# Altium integrated library TI Amplifiers and Linear Operational Amplifier Precision Amplifier Part Two.IntLib: 2300 symbols (part 5 of 81)
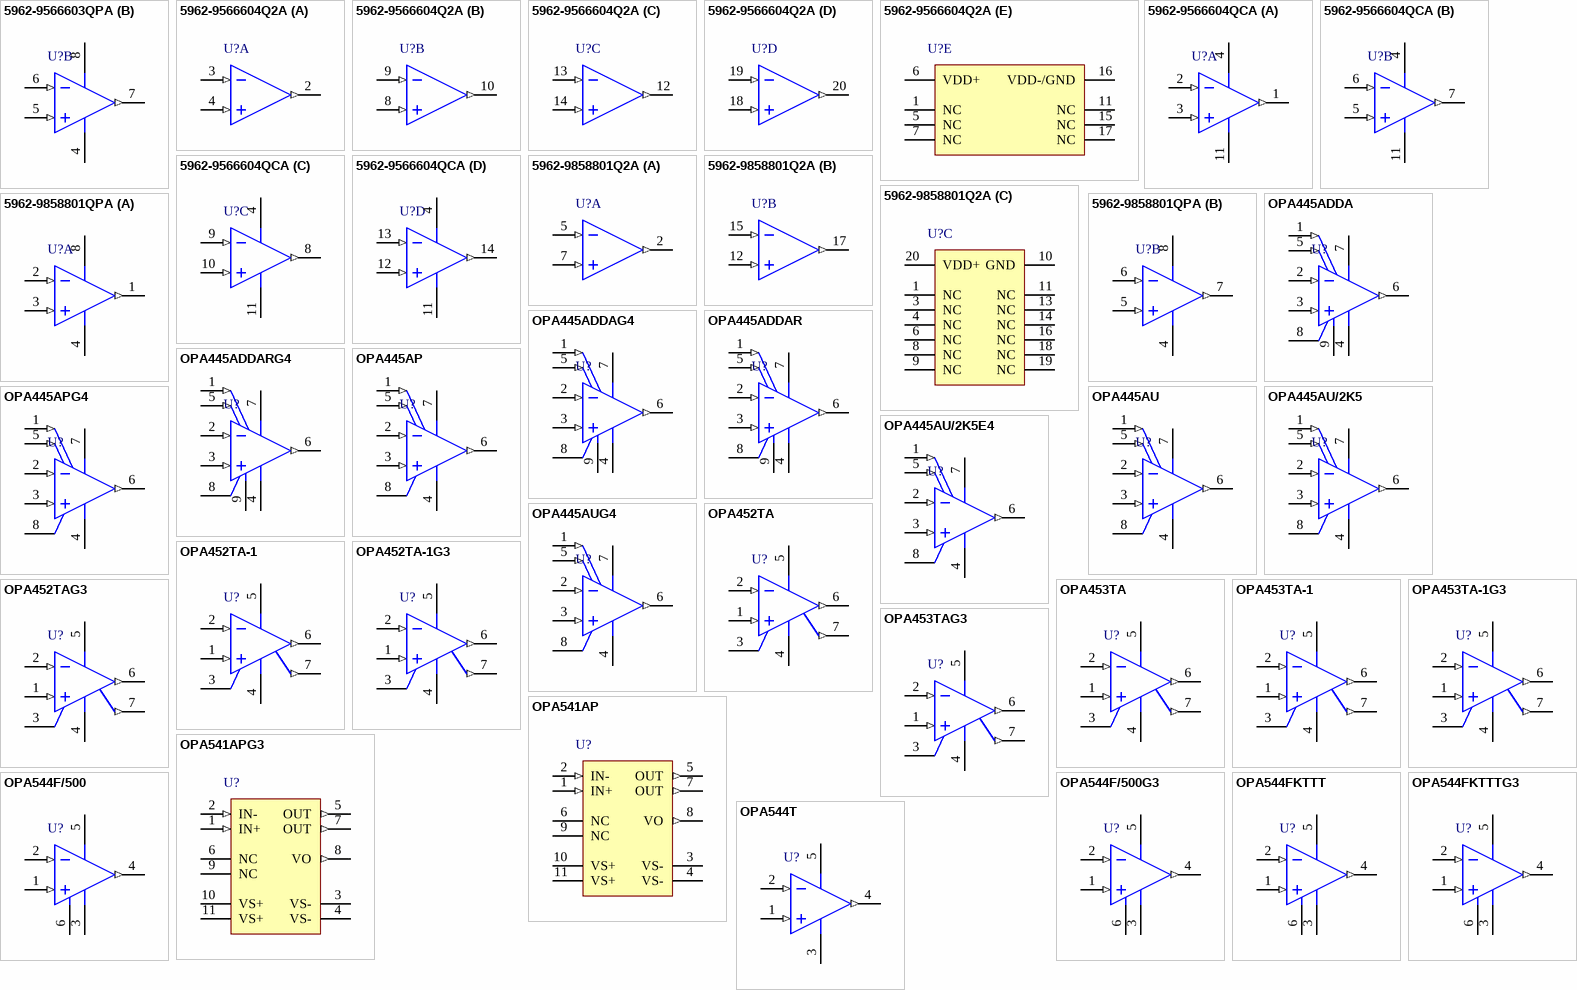
[diagram p140: symbols 5962-9566603QPA to OPA544T]

## OPA541AP
designator U?
High Power Monolithic Operational Amplifier, 20 to 70 V, -25 to 85 degC, 11-pin FM (KV11), Green (RoHS & no Sb/Br); Manufacturer: Texas Instruments; PartNumber: OPA541AP; CMRR(Min)(dB): 95; GBW(Typ)(MHz): 1.6; IIB(Max)(pA): 50; Iq per channel(Max)(mA): 25; Number of Channels: 1; Offset Drift(Typ)(uV/C): 20; Packing: TUBE; Rating: Catalog; Slew Rate(Typ)(V/us): 10; Sub Family: High Output Current Amplifier (>=50mA), High Supply Voltage Amplifier (>=30V), Precision Amplifier; Total Supply Voltage(Max)(+5V is 5, +/-5V is 10): 70; DatasheetVersion: SBOS153A; PackageVersion: 4202503/C, 06/2009; PackageReference: KV11; PackageDescription: 11-Pin Plastic Flange Mount, Body 20.015 x 4.495 mm, Pitch 1.7 mm; Supplier 1: Digi-Key; Supplier Part Number 1: OPA541AP-ND; Supplier 2: Farnell; Supplier Part Number 2: 1097513; Supplier 3: Newark; Supplier Part Number 3: 72K9048; Supplier 4: Mouser; Supplier Part Number 4: 595-OPA541AP; Eco-Plan: Green (RoHS & no Sb/Br); Total Supply Voltage(Min)(+5V is 5, +/-5V is 10): 20; Vio (25C)(Max)(mV): 10; Mounting Technology: Through Hole; Code_JEDEC: MO-48-AA; ComponentLink1Description: Manufacturer URL; ComponentLink1URL: http://www.ti.com/; ComponentLink2Description: Datasheet; ComponentLink2URL: http://www.ti.com/lit/ds/symlink/opa541.pdf; ComponentLink3Description: Package Specification; ComponentLink3URL: http://www.ti.com/litv/pdf/mpzf003b
footprint TI-KV11_V (FM, 11-Leads, Body 20.015x4.495mm, Pitch 1.7mm)
pins: 1 IN+ (in), 2 IN- (in), 3 VS- (power), 4 VS- (power), 5 OUT (out), 6 NC, 7 OUT (out), 8 VO (out), 9 NC, 10 VS+ (power), 11 VS+ (power)

## OPA541APG3
designator U?
High Power Monolithic Operational Amplifier, 20 to 70 V, -25 to 85 degC, 11-pin FM (KV11), Green (RoHS & no Sb/Br); Manufacturer: Texas Instruments; PartNumber: OPA541APG3; CMRR(Min)(dB): 95; GBW(Typ)(MHz): 1.6; IIB(Max)(pA): 50; Iq per channel(Max)(mA): 25; Number of Channels: 1; Offset Drift(Typ)(uV/C): 20; Packing: TUBE; Rating: Catalog; Slew Rate(Typ)(V/us): 10; Sub Family: High Output Current Amplifier (>=50mA), High Supply Voltage Amplifier (>=30V), Precision Amplifier; Total Supply Voltage(Max)(+5V is 5, +/-5V is 10): 70; DatasheetVersion: SBOS153A; PackageVersion: 4202503/C, 06/2009; PackageReference: KV11; PackageDescription: 11-Pin Plastic Flange Mount, Body 20.015 x 4.495 mm, Pitch 1.7 mm; Supplier 1: Digi-Key; Supplier Part Number 1: 296-36130-5-ND; Supplier 2: Newark; Supplier Part Number 2: 24K4690; Supplier 3: Mouser; Supplier Part Number 3: 595-OPA541APG3; Eco-Plan: Green (RoHS & no Sb/Br); Total Supply Voltage(Min)(+5V is 5, +/-5V is 10): 20; Vio (25C)(Max)(mV): 10; Mounting Technology: Through Hole; Code_JEDEC: MO-48-AA; ComponentLink1Description: Manufacturer URL; ComponentLink1URL: http://www.ti.com/; ComponentLink2Description: Datasheet; ComponentLink2URL: http://www.ti.com/lit/ds/symlink/opa541.pdf; ComponentLink3Description: Package Specification; ComponentLink3URL: http://www.ti.com/litv/pdf/mpzf003b
footprint TI-KV11_V (FM, 11-Leads, Body 20.015x4.495mm, Pitch 1.7mm)
pins: 1 IN+ (in), 2 IN- (in), 3 VS- (power), 4 VS- (power), 5 OUT (out), 6 NC, 7 OUT (out), 8 VO (out), 9 NC, 10 VS+ (power), 11 VS+ (power)

## OPA544F/500
designator U?
High-Voltage, High-Current Operational Amplifier, 20 to 70 V, -40 to 85 degC, 5-pin DPAK (KTT5), Green (RoHS & no Sb/Br); Manufacturer: Texas Instruments; PartNumber: OPA544F/500; CMRR(Min)(dB): 90; GBW(Typ)(MHz): 1.4; IIB(Max)(pA): 100; Iq per channel(Max)(mA): 15; Number of Channels: 1; Offset Drift(Typ)(uV/C): 10; Packing: LARGE T&R; Rating: Catalog; Slew Rate(Typ)(V/us): 8; Sub Family: High Output Current Amplifier (>=50mA), High Supply Voltage Amplifier (>=30V), Precision Amplifier; Total Supply Voltage(Max)(+5V is 5, +/-5V is 10): 70; Total Supply Voltage(Min)(+5V is 5, +/-5V is 10): 20; Vio (25C)(Max)(mV): 5; DatasheetVersion: SBOS038; PackageVersion: 4200577-3/F, 07/2011; PackageReference: KTT5; PackageDescription: 3-Pin Plastic Flange Mount, Body 10.16 x 10.34 mm, Pitch 1.7 mm; Supplier 1: Digi-Key; Supplier Part Number 1: OPA544F/500-ND; Supplier 2: Farnell; Supplier Part Number 2: 2102679; Supplier 3: Newark; Supplier Part Number 3: 94T5896; Supplier 4: Newark; Supplier Part Number 4: 75C5058; Supplier 5: Mouser; Supplier Part Number 5: 595-OPA544F/500; Eco-Plan: Green (RoHS & no Sb/Br); Mounting Technology: Surface Mount; Code_JEDEC: TO-263; ComponentLink1Description: Manufacturer URL; ComponentLink1URL: http://www.ti.com/; ComponentLink2Description: Datasheet; ComponentLink2URL: http://www.ti.com/lit/ds/symlink/opa544.pdf; ComponentLink3Description: Package Specification; ComponentLink3URL: http://www.ti.com/litv/pdf/mpsf007e
footprint TI-KTT5_N (DPAK, 5-Leads, Body 10.16x8.925mm, Pitch 1.7mm, IPC Medium Density)
footprint TI-KTT5_L (DPAK, 5-Leads, Body 10.16x8.925mm, Pitch 1.7mm, IPC High Density)
footprint TI-KTT5_M (DPAK, 5-Leads, Body 10.16x8.925mm, Pitch 1.7mm, IPC Low Density)
pins: 1 VIN+ (in), 2 VIN- (in), 3 V- (power), 4 VO (out), 5 V+ (power), 6 EP (power)

## OPA544F/500G3
designator U?
High-Voltage, High-Current Operational Amplifier, 20 to 70 V, -40 to 85 degC, 5-pin DPAK (KTT5), Green (RoHS & no Sb/Br); Manufacturer: Texas Instruments; PartNumber: OPA544F/500G3; CMRR(Min)(dB): 90; GBW(Typ)(MHz): 1.4; IIB(Max)(pA): 100; Iq per channel(Max)(mA): 15; Number of Channels: 1; Offset Drift(Typ)(uV/C): 10; Packing: LARGE T&R; Rating: Catalog; Slew Rate(Typ)(V/us): 8; Sub Family: High Output Current Amplifier (>=50mA), High Supply Voltage Amplifier (>=30V), Precision Amplifier; Total Supply Voltage(Max)(+5V is 5, +/-5V is 10): 70; Total Supply Voltage(Min)(+5V is 5, +/-5V is 10): 20; Vio (25C)(Max)(mV): 5; DatasheetVersion: SBOS038; PackageVersion: 4200577-3/F, 07/2011; PackageReference: KTT5; PackageDescription: 3-Pin Plastic Flange Mount, Body 10.16 x 10.34 mm, Pitch 1.7 mm; Supplier 1: Digi-Key; Supplier Part Number 1: OPA544F/500G3-ND; Supplier 2: Mouser; Supplier Part Number 2: 595-OPA544F/500G3; Eco-Plan: Green (RoHS & no Sb/Br); Mounting Technology: Surface Mount; Code_JEDEC: TO-263; ComponentLink1Description: Manufacturer URL; ComponentLink1URL: http://www.ti.com/; ComponentLink2Description: Datasheet; ComponentLink2URL: http://www.ti.com/lit/ds/symlink/opa544.pdf; ComponentLink3Description: Package Specification; ComponentLink3URL: http://www.ti.com/litv/pdf/mpsf007e
footprint TI-KTT5_N (DPAK, 5-Leads, Body 10.16x8.925mm, Pitch 1.7mm, IPC Medium Density)
footprint TI-KTT5_L (DPAK, 5-Leads, Body 10.16x8.925mm, Pitch 1.7mm, IPC High Density)
footprint TI-KTT5_M (DPAK, 5-Leads, Body 10.16x8.925mm, Pitch 1.7mm, IPC Low Density)
pins: 1 VIN+ (in), 2 VIN- (in), 3 V- (power), 4 VO (out), 5 V+ (power), 6 EP (power)

## OPA544FKTTT
designator U?
High-Voltage, High-Current Operational Amplifier, 20 to 70 V, -40 to 85 degC, 5-pin DPAK (KTT5); Manufacturer: Texas Instruments; PartNumber: OPA544FKTTT; CMRR(Min)(dB): 90; GBW(Typ)(MHz): 1.4; IIB(Max)(pA): 100; Iq per channel(Max)(mA): 15; Number of Channels: 1; Offset Drift(Typ)(uV/C): 10; Packing: SMALL T&R; Rating: Catalog; Slew Rate(Typ)(V/us): 8; Sub Family: High Output Current Amplifier (>=50mA), High Supply Voltage Amplifier (>=30V), Precision Amplifier; Total Supply Voltage(Max)(+5V is 5, +/-5V is 10): 70; Total Supply Voltage(Min)(+5V is 5, +/-5V is 10): 20; Vio (25C)(Max)(mV): 5; DatasheetVersion: SBOS038; PackageVersion: 4200577-3/F, 07/2011; PackageReference: KTT5; PackageDescription: 3-Pin Plastic Flange Mount, Body 10.16 x 10.34 mm, Pitch 1.7 mm; Supplier 1: Digi-Key; Supplier Part Number 1: 296-15905-2-ND; Supplier 2: Digi-Key; Supplier Part Number 2: 296-15905-1-ND; Supplier 3: Digi-Key; Supplier Part Number 3: 296-15905-6-ND; Supplier 4: Farnell; Supplier Part Number 4: 1296116; Supplier 5: Newark; Supplier Part Number 5: 87H2075; Supplier 6: Mouser; Supplier Part Number 6: 595-OPA544FKTTT; Mounting Technology: Surface Mount; Code_JEDEC: TO-263; ComponentLink1Description: Manufacturer URL; ComponentLink1URL: http://www.ti.com/; ComponentLink2Description: Datasheet; ComponentLink2URL: http://www.ti.com/lit/ds/symlink/opa544.pdf; ComponentLink3Description: Package Specification; ComponentLink3URL: http://www.ti.com/litv/pdf/mpsf007e
footprint TI-KTT5_N (DPAK, 5-Leads, Body 10.16x8.925mm, Pitch 1.7mm, IPC Medium Density)
footprint TI-KTT5_L (DPAK, 5-Leads, Body 10.16x8.925mm, Pitch 1.7mm, IPC High Density)
footprint TI-KTT5_M (DPAK, 5-Leads, Body 10.16x8.925mm, Pitch 1.7mm, IPC Low Density)
pins: 1 VIN+ (in), 2 VIN- (in), 3 V- (power), 4 VO (out), 5 V+ (power), 6 EP (power)

## OPA544FKTTTG3
designator U?
High-Voltage, High-Current Operational Amplifier, 20 to 70 V, -40 to 85 degC, 5-pin DPAK (KTT5); Manufacturer: Texas Instruments; PartNumber: OPA544FKTTTG3; CMRR(Min)(dB): 90; GBW(Typ)(MHz): 1.4; IIB(Max)(pA): 100; Iq per channel(Max)(mA): 15; Number of Channels: 1; Offset Drift(Typ)(uV/C): 10; Packing: SMALL T&R; Rating: Catalog; Slew Rate(Typ)(V/us): 8; Sub Family: High Output Current Amplifier (>=50mA), High Supply Voltage Amplifier (>=30V), Precision Amplifier; Total Supply Voltage(Max)(+5V is 5, +/-5V is 10): 70; Total Supply Voltage(Min)(+5V is 5, +/-5V is 10): 20; Vio (25C)(Max)(mV): 5; DatasheetVersion: SBOS038; PackageVersion: 4200577-3/F, 07/2011; PackageReference: KTT5; PackageDescription: 3-Pin Plastic Flange Mount, Body 10.16 x 10.34 mm, Pitch 1.7 mm; Supplier 1: Digi-Key; Supplier Part Number 1: OPA544FKTTTG3-ND; Supplier 2: Mouser; Supplier Part Number 2: 595-OPA544FKTTTG3; Mounting Technology: Surface Mount; Code_JEDEC: TO-263; ComponentLink1Description: Manufacturer URL; ComponentLink1URL: http://www.ti.com/; ComponentLink2Description: Datasheet; ComponentLink2URL: http://www.ti.com/lit/ds/symlink/opa544.pdf; ComponentLink3Description: Package Specification; ComponentLink3URL: http://www.ti.com/litv/pdf/mpsf007e
footprint TI-KTT5_N (DPAK, 5-Leads, Body 10.16x8.925mm, Pitch 1.7mm, IPC Medium Density)
footprint TI-KTT5_L (DPAK, 5-Leads, Body 10.16x8.925mm, Pitch 1.7mm, IPC High Density)
footprint TI-KTT5_M (DPAK, 5-Leads, Body 10.16x8.925mm, Pitch 1.7mm, IPC Low Density)
pins: 1 VIN+ (in), 2 VIN- (in), 3 V- (power), 4 VO (out), 5 V+ (power), 6 EP (power)

## OPA544T
designator U?
High-Voltage, High-Current Operational Amplifier, 20 to 70 V, -40 to 85 degC, 5-pin FM (KC5); Manufacturer: Texas Instruments; PartNumber: OPA544T; CMRR(Min)(dB): 90; GBW(Typ)(MHz): 1.4; IIB(Max)(pA): 100; Iq per channel(Max)(mA): 15; Number of Channels: 1; Offset Drift(Typ)(uV/C): 10; Packing: TUBE; Rating: Catalog; Slew Rate(Typ)(V/us): 8; Sub Family: High Output Current Amplifier (>=50mA), High Supply Voltage Amplifier (>=30V), Precision Amplifier; Total Supply Voltage(Max)(+5V is 5, +/-5V is 10): 70; Total Supply Voltage(Min)(+5V is 5, +/-5V is 10): 20; Vio (25C)(Max)(mV): 5; DatasheetVersion: SBOS038; PackageVersion: 4040208/F, 07/2006; PackageReference: KC5; PackageDescription: 5-Pin Plastic Flange Mount, Body 10.16 x 15.37 mm, Pitch 1.7 mm; Supplier 1: Digi-Key; Supplier Part Number 1: OPA544T-ND; Supplier 2: Newark; Supplier Part Number 2: 36K2005; Supplier 3: Mouser; Supplier Part Number 3: 595-OPA544T; Mounting Technology: Through Hole; ComponentLink1Description: Manufacturer URL; ComponentLink1URL: http://www.ti.com/; ComponentLink2Description: Datasheet; ComponentLink2URL: http://www.ti.com/lit/ds/symlink/opa544.pdf; ComponentLink3Description: Package Specification; ComponentLink3URL: http://www.ti.com/litv/pdf/msot008c
footprint TI-KC5 (Flange Mount, 5-Leads, Body 15.37x10.16mm, Pitch 1.7mm)
pins: 1 VIN+ (in), 2 VIN- (in), 3 V- (power), 4 VO (out), 5 V+ (power)

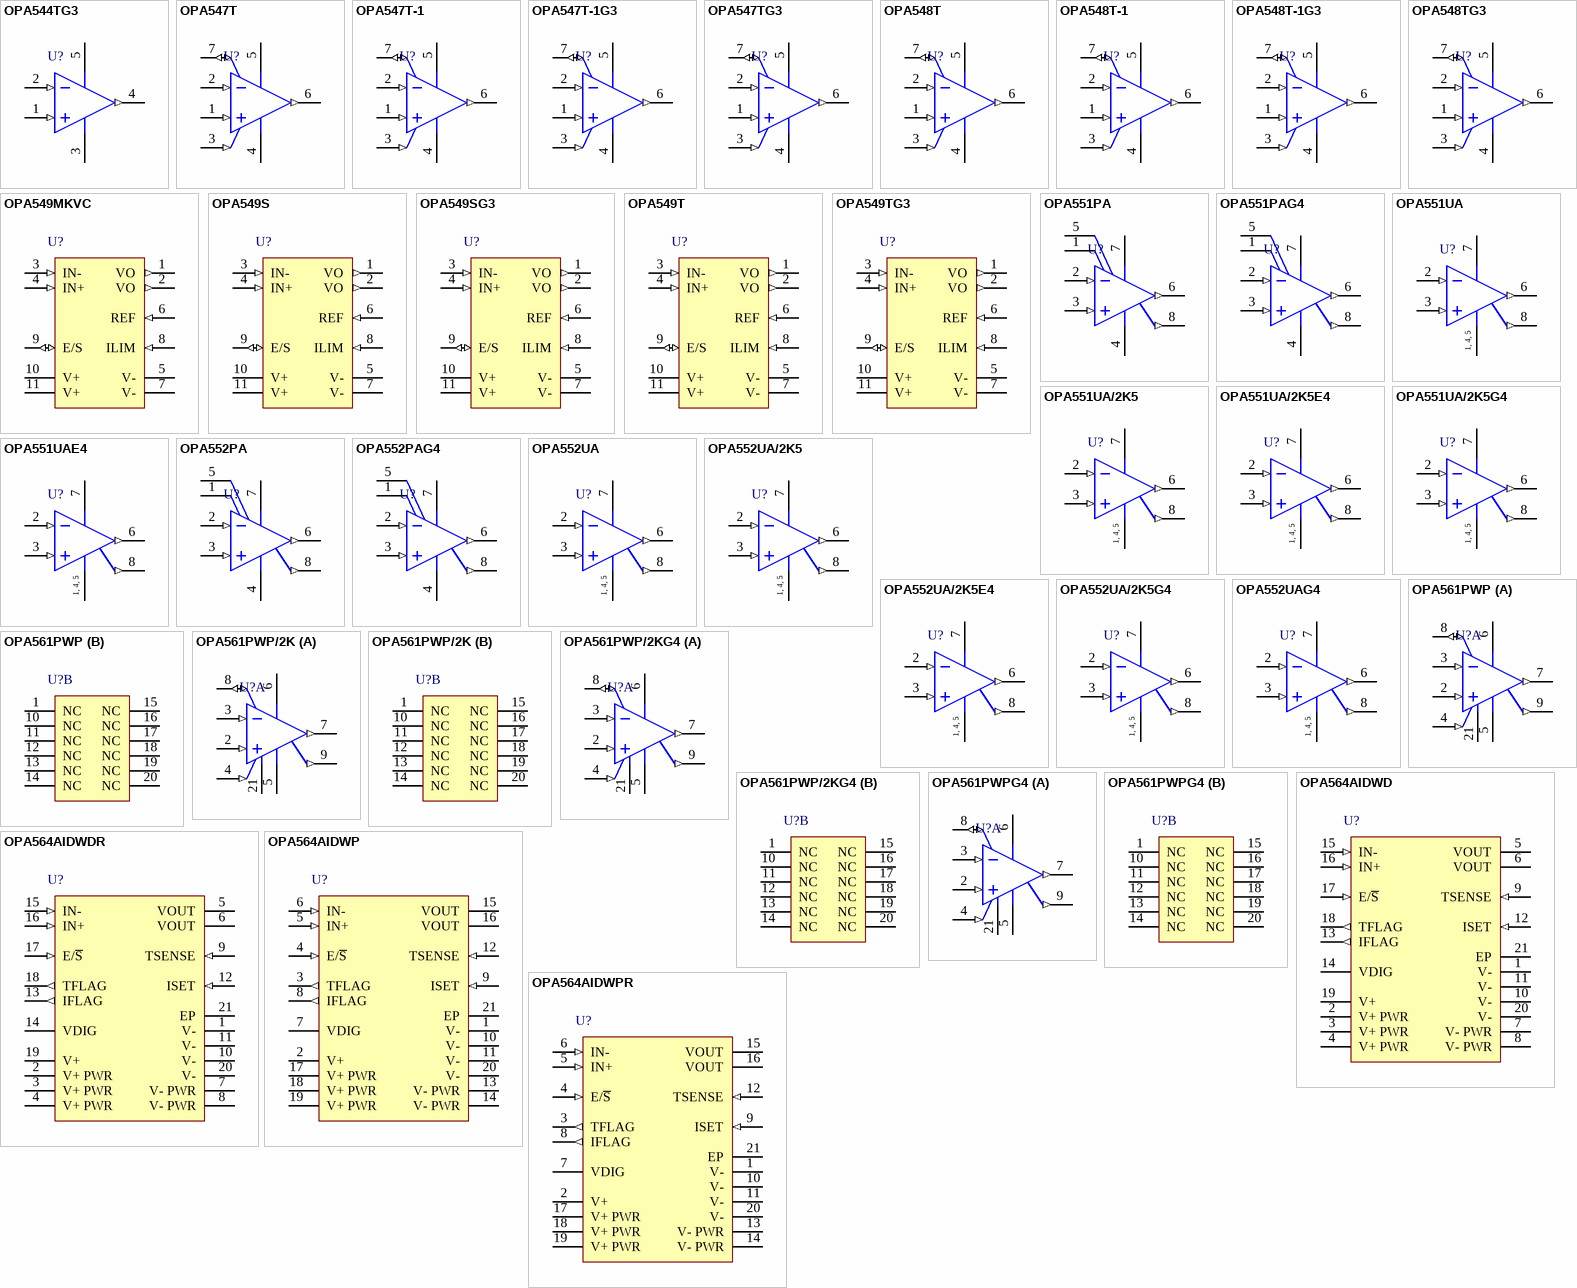
[diagram p8: symbols OPA544TG3 to OPA564AIDWPR]

## OPA544TG3
designator U?
High-Voltage, High-Current Operational Amplifier, 20 to 70 V, -40 to 85 degC, 5-pin FM (KC5); Manufacturer: Texas Instruments; PartNumber: OPA544TG3; CMRR(Min)(dB): 90; GBW(Typ)(MHz): 1.4; IIB(Max)(pA): 100; Iq per channel(Max)(mA): 15; Number of Channels: 1; Offset Drift(Typ)(uV/C): 10; Packing: TUBE; Rating: Catalog; Slew Rate(Typ)(V/us): 8; Sub Family: High Output Current Amplifier (>=50mA), High Supply Voltage Amplifier (>=30V), Precision Amplifier; Total Supply Voltage(Max)(+5V is 5, +/-5V is 10): 70; Total Supply Voltage(Min)(+5V is 5, +/-5V is 10): 20; Vio (25C)(Max)(mV): 5; DatasheetVersion: SBOS038; PackageVersion: 4040208/F, 07/2006; PackageReference: KC5; PackageDescription: 5-Pin Plastic Flange Mount, Body 10.16 x 15.37 mm, Pitch 1.7 mm; Supplier 1: Digi-Key; Supplier Part Number 1: 296-36131-5-ND; Supplier 2: Newark; Supplier Part Number 2: 28M6694; Supplier 3: Mouser; Supplier Part Number 3: 595-OPA544TG3; Mounting Technology: Through Hole; ComponentLink1Description: Manufacturer URL; ComponentLink1URL: http://www.ti.com/; ComponentLink2Description: Datasheet; ComponentLink2URL: http://www.ti.com/lit/ds/symlink/opa544.pdf; ComponentLink3Description: Package Specification; ComponentLink3URL: http://www.ti.com/litv/pdf/msot008c
footprint TI-KC5 (Flange Mount, 5-Leads, Body 15.37x10.16mm, Pitch 1.7mm)
pins: 1 VIN+ (in), 2 VIN- (in), 3 V- (power), 4 VO (out), 5 V+ (power)

## OPA547T
designator U?
High-Voltage, High-Current Operational Amplifier, Excellent Output Swing, 8 to 60 V, -40 to 85 degC, 7-pin FM (KVT7), Green (RoHS & no Sb/Br); Manufacturer: Texas Instruments; PartNumber: OPA547T; CMRR(Min)(dB): 80; GBW(Typ)(MHz): 1; IIB(Max)(pA): 500000; Iq per channel(Max)(mA): 15; Offset Drift(Typ)(uV/C): 25; Packing: TUBE; Rating: Catalog; Slew Rate(Typ)(V/us): 6; Sub Family: High Output Current Amplifier (>=50mA), High Supply Voltage Amplifier (>=30V), Precision Amplifier; Total Supply Voltage(Max)(+5V is 5, +/-5V is 10): 60; Total Supply Voltage(Min)(+5V is 5, +/-5V is 10): 8; Vio (25C)(Max)(mV): 5; DatasheetVersion: SBOS056F; PackageVersion: 4204912/A, 01/2003; PackageReference: KVT7; PackageDescription: 7-Pin Plastic Flange Mount, Body 10.16 x 4.495 mm, Pitch 1.27 mm; Supplier 1: Digi-Key; Supplier Part Number 1: OPA547T-ND; Supplier 2: Farnell; Supplier Part Number 2: 1564871; Supplier 3: Farnell; Supplier Part Number 3: 1097395; Supplier 4: Newark; Supplier Part Number 4: 62K3461; Supplier 5: Mouser; Supplier Part Number 5: 595-OPA547T; Eco-Plan: Green (RoHS & no Sb/Br); Number of Channels: 1; Mounting Technology: Through Hole; ComponentLink1Description: Manufacturer URL; ComponentLink1URL: http://www.ti.com/; ComponentLink2Description: Datasheet; ComponentLink2URL: http://www.ti.com/lit/ds/symlink/opa547.pdf; ComponentLink3Description: Package Specification; ComponentLink3URL: http://www.ti.com/litv/pdf/mpzf004
footprint TI-KVT7 (FM, 7-Leads, Body 10.16x4.495mm, Pitch 1.27mm)
pins: 1 VIN+ (in), 2 VIN- (in), 3 ILIM (in), 4 V- (power), 5 V+ (power), 6 VO (out), 7 E/S (io)

## OPA547T-1
designator U?
High-Voltage, High-Current Operational Amplifier, Excellent Output Swing, 8 to 60 V, -40 to 85 degC, 7-pin FM (KC7), Green (RoHS & no Sb/Br); Manufacturer: Texas Instruments; PartNumber: OPA547T-1; CMRR(Min)(dB): 80; GBW(Typ)(MHz): 1; IIB(Max)(pA): 500000; Iq per channel(Max)(mA): 15; Offset Drift(Typ)(uV/C): 25; Packing: TUBE; Rating: Catalog; Slew Rate(Typ)(V/us): 6; Sub Family: High Output Current Amplifier (>=50mA), High Supply Voltage Amplifier (>=30V), Precision Amplifier; Total Supply Voltage(Max)(+5V is 5, +/-5V is 10): 60; Total Supply Voltage(Min)(+5V is 5, +/-5V is 10): 8; Vio (25C)(Max)(mV): 5; DatasheetVersion: SBOS056F; PackageVersion: 4040251/B, 01/1995; PackageReference: KC7; PackageDescription: 7-Pin Plastic Flange Mount, Body 10.16 x 14.55 mm, Pitch 1.27 mm; Supplier 1: Digi-Key; Supplier Part Number 1: 296-25296-5-ND; Supplier 2: Newark; Supplier Part Number 2: 75C5062; Supplier 3: Mouser; Supplier Part Number 3: 595-OPA547T-1; Eco-Plan: Green (RoHS & no Sb/Br); Number of Channels: 1; Mounting Technology: Through Hole; ComponentLink1Description: Manufacturer URL; ComponentLink1URL: http://www.ti.com/; ComponentLink2Description: Datasheet; ComponentLink2URL: http://www.ti.com/lit/ds/symlink/opa547.pdf; ComponentLink3Description: Package Specification; ComponentLink3URL: http://www.ti.com/litv/pdf/msot010
footprint TI-KC7 (Flange Mount, 7-Leads, Body 14.55x10.16mm, Pitch 1.27mm)
pins: 1 VIN+ (in), 2 VIN- (in), 3 ILIM (in), 4 V- (power), 5 V+ (power), 6 VO (out), 7 E/S (io)

## OPA547T-1G3
designator U?
High-Voltage, High-Current Operational Amplifier, Excellent Output Swing, 8 to 60 V, -40 to 85 degC, 7-pin FM (KC7), Green (RoHS & no Sb/Br); Manufacturer: Texas Instruments; PartNumber: OPA547T-1G3; CMRR(Min)(dB): 80; GBW(Typ)(MHz): 1; IIB(Max)(pA): 500000; Iq per channel(Max)(mA): 15; Offset Drift(Typ)(uV/C): 25; Packing: TUBE; Rating: Catalog; Slew Rate(Typ)(V/us): 6; Sub Family: High Output Current Amplifier (>=50mA), High Supply Voltage Amplifier (>=30V), Precision Amplifier; Total Supply Voltage(Max)(+5V is 5, +/-5V is 10): 60; Total Supply Voltage(Min)(+5V is 5, +/-5V is 10): 8; Vio (25C)(Max)(mV): 5; DatasheetVersion: SBOS056F; PackageVersion: 4040251/B, 01/1995; PackageReference: KC7; PackageDescription: 7-Pin Plastic Flange Mount, Body 10.16 x 14.55 mm, Pitch 1.27 mm; Supplier 1: Digi-Key; Supplier Part Number 1: OPA547T-1G3-ND; Supplier 2: Newark; Supplier Part Number 2: 73K9266; Supplier 3: Mouser; Supplier Part Number 3: 595-OPA547T-1G3; Eco-Plan: Green (RoHS & no Sb/Br); Number of Channels: 1; Mounting Technology: Through Hole; ComponentLink1Description: Manufacturer URL; ComponentLink1URL: http://www.ti.com/; ComponentLink2Description: Datasheet; ComponentLink2URL: http://www.ti.com/lit/ds/symlink/opa547.pdf; ComponentLink3Description: Package Specification; ComponentLink3URL: http://www.ti.com/litv/pdf/msot010
footprint TI-KC7 (Flange Mount, 7-Leads, Body 14.55x10.16mm, Pitch 1.27mm)
pins: 1 VIN+ (in), 2 VIN- (in), 3 ILIM (in), 4 V- (power), 5 V+ (power), 6 VO (out), 7 E/S (io)

## OPA547TG3
designator U?
High-Voltage, High-Current Operational Amplifier, Excellent Output Swing, 8 to 60 V, -40 to 85 degC, 7-pin FM (KVT7), Green (RoHS & no Sb/Br); Manufacturer: Texas Instruments; PartNumber: OPA547TG3; CMRR(Min)(dB): 80; GBW(Typ)(MHz): 1; IIB(Max)(pA): 500000; Iq per channel(Max)(mA): 15; Offset Drift(Typ)(uV/C): 25; Packing: TUBE; Rating: Catalog; Slew Rate(Typ)(V/us): 6; Sub Family: High Output Current Amplifier (>=50mA), High Supply Voltage Amplifier (>=30V), Precision Amplifier; Total Supply Voltage(Max)(+5V is 5, +/-5V is 10): 60; Total Supply Voltage(Min)(+5V is 5, +/-5V is 10): 8; Vio (25C)(Max)(mV): 5; DatasheetVersion: SBOS056F; PackageVersion: 4204912/A, 01/2003; PackageReference: KVT7; PackageDescription: 7-Pin Plastic Flange Mount, Body 10.16 x 4.495 mm, Pitch 1.27 mm; Supplier 1: Digi-Key; Supplier Part Number 1: OPA547TG3-ND; Supplier 2: Newark; Supplier Part Number 2: 61K1370; Supplier 3: Mouser; Supplier Part Number 3: 595-OPA547TG3; Eco-Plan: Green (RoHS & no Sb/Br); Number of Channels: 1; Mounting Technology: Through Hole; ComponentLink1Description: Manufacturer URL; ComponentLink1URL: http://www.ti.com/; ComponentLink2Description: Datasheet; ComponentLink2URL: http://www.ti.com/lit/ds/symlink/opa547.pdf; ComponentLink3Description: Package Specification; ComponentLink3URL: http://www.ti.com/litv/pdf/mpzf004
footprint TI-KVT7 (FM, 7-Leads, Body 10.16x4.495mm, Pitch 1.27mm)
pins: 1 VIN+ (in), 2 VIN- (in), 3 ILIM (in), 4 V- (power), 5 V+ (power), 6 VO (out), 7 E/S (io)

## OPA548T
designator U?
High-Voltage, High-Current Operational Amplifier, Excellent Output Swing, 8 to 60 V, -40 to 85 degC, 7-pin FM (KVT7), Green (RoHS & no Sb/Br); Manufacturer: Texas Instruments; PartNumber: OPA548T; CMRR(Min)(dB): 80; GBW(Typ)(MHz): 1; IIB(Max)(pA): 500000; Iq per channel(Max)(mA): 20; Offset Drift(Typ)(uV/C): 30; Packing: TUBE; Rating: Catalog; Slew Rate(Typ)(V/us): 10; Sub Family: High Output Current Amplifier (>=50mA), High Supply Voltage Amplifier (>=30V), Precision Amplifier; Total Supply Voltage(Max)(+5V is 5, +/-5V is 10): 60; Total Supply Voltage(Min)(+5V is 5, +/-5V is 10): 8; DatasheetVersion: SBOS070B; PackageVersion: 4204912/A, 01/2003; PackageReference: KVT7; PackageDescription: 7-Pin Plastic Flange Mount, Body 10.16 x 4.495 mm, Pitch 1.27 mm; Supplier 1: Digi-Key; Supplier Part Number 1: 296-23089-5-ND; Supplier 2: Newark; Supplier Part Number 2: 69K2680; Supplier 3: Mouser; Supplier Part Number 3: 595-OPA548T; Eco-Plan: Green (RoHS & no Sb/Br); Number of Channels: 1; Vio (25C)(Max)(mV): 10; Mounting Technology: Through Hole; ComponentLink1Description: Manufacturer URL; ComponentLink1URL: http://www.ti.com/; ComponentLink2Description: Datasheet; ComponentLink2URL: http://www.ti.com/lit/ds/symlink/opa548.pdf; ComponentLink3Description: Package Specification; ComponentLink3URL: http://www.ti.com/litv/pdf/mpzf004
footprint TI-KVT7 (FM, 7-Leads, Body 10.16x4.495mm, Pitch 1.27mm)
pins: 1 VIN+ (in), 2 VIN- (in), 3 ILIM (in), 4 V- (power), 5 V+ (power), 6 VO (out), 7 E/S (io)

## OPA548T-1
designator U?
High-Voltage, High-Current Operational Amplifier, Excellent Output Swing, 8 to 60 V, -40 to 85 degC, 7-pin FM (KC7), Green (RoHS & no Sb/Br); Manufacturer: Texas Instruments; PartNumber: OPA548T-1; CMRR(Min)(dB): 80; GBW(Typ)(MHz): 1; IIB(Max)(pA): 500000; Iq per channel(Max)(mA): 20; Offset Drift(Typ)(uV/C): 30; Packing: TUBE; Rating: Catalog; Slew Rate(Typ)(V/us): 10; Sub Family: High Output Current Amplifier (>=50mA), High Supply Voltage Amplifier (>=30V), Precision Amplifier; Total Supply Voltage(Max)(+5V is 5, +/-5V is 10): 60; Total Supply Voltage(Min)(+5V is 5, +/-5V is 10): 8; DatasheetVersion: SBOS070B; PackageVersion: 4040251/B, 01/1995; PackageReference: KC7; PackageDescription: 7-Pin Plastic Flange Mount, Body 10.16 x 14.55 mm, Pitch 1.27 mm; Supplier 1: Digi-Key; Supplier Part Number 1: 296-26291-5-ND; Supplier 2: Farnell; Supplier Part Number 2: 1703223; Supplier 3: Newark; Supplier Part Number 3: 35K4775; Supplier 4: Mouser; Supplier Part Number 4: 595-OPA548T-1; Eco-Plan: Green (RoHS & no Sb/Br); Number of Channels: 1; Vio (25C)(Max)(mV): 10; Mounting Technology: Through Hole; ComponentLink1Description: Manufacturer URL; ComponentLink1URL: http://www.ti.com/; ComponentLink2Description: Datasheet; ComponentLink2URL: http://www.ti.com/lit/ds/symlink/opa548.pdf; ComponentLink3Description: Package Specification; ComponentLink3URL: http://www.ti.com/litv/pdf/msot010
footprint TI-KC7 (Flange Mount, 7-Leads, Body 14.55x10.16mm, Pitch 1.27mm)
pins: 1 VIN+ (in), 2 VIN- (in), 3 ILIM (in), 4 V- (power), 5 V+ (power), 6 VO (out), 7 E/S (io)

## OPA548T-1G3
designator U?
High-Voltage, High-Current Operational Amplifier, Excellent Output Swing, 8 to 60 V, -40 to 85 degC, 7-pin FM (KC7), Green (RoHS & no Sb/Br); Manufacturer: Texas Instruments; PartNumber: OPA548T-1G3; CMRR(Min)(dB): 80; GBW(Typ)(MHz): 1; IIB(Max)(pA): 500000; Iq per channel(Max)(mA): 20; Offset Drift(Typ)(uV/C): 30; Packing: TUBE; Rating: Catalog; Slew Rate(Typ)(V/us): 10; Sub Family: High Output Current Amplifier (>=50mA), High Supply Voltage Amplifier (>=30V), Precision Amplifier; Total Supply Voltage(Max)(+5V is 5, +/-5V is 10): 60; Total Supply Voltage(Min)(+5V is 5, +/-5V is 10): 8; DatasheetVersion: SBOS070B; PackageVersion: 4040251/B, 01/1995; PackageReference: KC7; PackageDescription: 7-Pin Plastic Flange Mount, Body 10.16 x 14.55 mm, Pitch 1.27 mm; Supplier 1: Digi-Key; Supplier Part Number 1: 296-36132-5-ND; Supplier 2: Newark; Supplier Part Number 2: 73K9267; Supplier 3: Mouser; Supplier Part Number 3: 595-OPA548T-1G3; Eco-Plan: Green (RoHS & no Sb/Br); Number of Channels: 1; Vio (25C)(Max)(mV): 10; Mounting Technology: Through Hole; ComponentLink1Description: Manufacturer URL; ComponentLink1URL: http://www.ti.com/; ComponentLink2Description: Datasheet; ComponentLink2URL: http://www.ti.com/lit/ds/symlink/opa548.pdf; ComponentLink3Description: Package Specification; ComponentLink3URL: http://www.ti.com/litv/pdf/msot010
footprint TI-KC7 (Flange Mount, 7-Leads, Body 14.55x10.16mm, Pitch 1.27mm)
pins: 1 VIN+ (in), 2 VIN- (in), 3 ILIM (in), 4 V- (power), 5 V+ (power), 6 VO (out), 7 E/S (io)

## OPA548TG3
designator U?
High-Voltage, High-Current Operational Amplifier, Excellent Output Swing, 8 to 60 V, -40 to 85 degC, 7-pin FM (KVT7), Green (RoHS & no Sb/Br); Manufacturer: Texas Instruments; PartNumber: OPA548TG3; CMRR(Min)(dB): 80; GBW(Typ)(MHz): 1; IIB(Max)(pA): 500000; Iq per channel(Max)(mA): 20; Offset Drift(Typ)(uV/C): 30; Packing: TUBE; Rating: Catalog; Slew Rate(Typ)(V/us): 10; Sub Family: High Output Current Amplifier (>=50mA), High Supply Voltage Amplifier (>=30V), Precision Amplifier; Total Supply Voltage(Max)(+5V is 5, +/-5V is 10): 60; Total Supply Voltage(Min)(+5V is 5, +/-5V is 10): 8; DatasheetVersion: SBOS070B; PackageVersion: 4204912/A, 01/2003; PackageReference: KVT7; PackageDescription: 7-Pin Plastic Flange Mount, Body 10.16 x 4.495 mm, Pitch 1.27 mm; Supplier 1: Digi-Key; Supplier Part Number 1: 296-36133-5-ND; Supplier 2: Newark; Supplier Part Number 2: 58K5947; Supplier 3: Mouser; Supplier Part Number 3: 595-OPA548TG3; Eco-Plan: Green (RoHS & no Sb/Br); Number of Channels: 1; Vio (25C)(Max)(mV): 10; Mounting Technology: Through Hole; ComponentLink1Description: Manufacturer URL; ComponentLink1URL: http://www.ti.com/; ComponentLink2Description: Datasheet; ComponentLink2URL: http://www.ti.com/lit/ds/symlink/opa548.pdf; ComponentLink3Description: Package Specification; ComponentLink3URL: http://www.ti.com/litv/pdf/mpzf004
footprint TI-KVT7 (FM, 7-Leads, Body 10.16x4.495mm, Pitch 1.27mm)
pins: 1 VIN+ (in), 2 VIN- (in), 3 ILIM (in), 4 V- (power), 5 V+ (power), 6 VO (out), 7 E/S (io)

## OPA549MKVC
designator U?
High-Voltage, High-Current Operational Amplifier, 8 to 60 V, -55 to 125 degC, 11-pin FM (KVC), Green (RoHS & no Sb/Br); Manufacturer: Texas Instruments; PartNumber: OPA549MKVC; CMRR(Min)(dB): 78; GBW(Typ)(MHz): 0.9; IIB(Max)(pA): 500000; Iq per channel(Max)(mA): 35; Number of Channels: 1; Offset Drift(Typ)(uV/C): 20; Packing: JEDEC TRAY (5+1); Rating: Military; Slew Rate(Typ)(V/us): 9; Sub Family: High Supply Voltage Amplifier (>=30V), Precision Amplifier; Total Supply Voltage(Max)(+5V is 5, +/-5V is 10): 60; Total Supply Voltage(Min)(+5V is 5, +/-5V is 10): 8; Vio (25C)(Max)(mV): 5; DatasheetVersion: SLOS744; PackageVersion: 4202951/C, 09/2004; PackageReference: KVC11; PackageDescription: 11-Pin Plastic Flange Mount, Body 20.015 x 4.495 mm, Pitch 1.7 mm; Supplier 1: Digi-Key; Supplier Part Number 1: OPA549MKVC-ND; Supplier 2: Newark; Supplier Part Number 2: 95T0986; Supplier 3: Mouser; Supplier Part Number 3: 595-OPA549MKVC; Eco-Plan: Green (RoHS & no Sb/Br); Mounting Technology: Through Hole; Code_JEDEC: MO-48-AA; ComponentLink1Description: Manufacturer URL; ComponentLink1URL: http://www.ti.com/; ComponentLink2Description: Datasheet; ComponentLink2URL: http://www.ti.com/lit/ds/symlink/opa549-hirel.pdf; ComponentLink3Description: Package Specification; ComponentLink3URL: http://www.ti.com/litv/pdf/mpsf016b
footprint TI-KVC11 (FM, 11-Leads, Body 20.015x4.495mm, Pitch 1.7mm)
pins: 1 VO (out), 2 VO (out), 3 IN- (in), 4 IN+ (in), 5 V- (power), 6 REF (in), 7 V- (power), 8 ILIM (in), 9 E/S (io), 10 V+ (power), 11 V+ (power)

## OPA549S
designator U?
High-Voltage, High-Current Operational Amplifier, Excellent Output Swing, 8 to 60 V, -40 to 125 degC, 11-pin FM (KVC), Green (RoHS & no Sb/Br); Manufacturer: Texas Instruments; PartNumber: OPA549S; CMRR(Min)(dB): 80; GBW(Typ)(MHz): 0.9; IIB(Max)(pA): 500000; Iq per channel(Max)(mA): 35; Number of Channels: 1; Offset Drift(Typ)(uV/C): 20; Packing: TUBE; Rating: Military; Slew Rate(Typ)(V/us): 9; Sub Family: High Output Current Amplifier (>=50mA), High Supply Voltage Amplifier (>=30V), Precision Amplifier; Total Supply Voltage(Max)(+5V is 5, +/-5V is 10): 60; Total Supply Voltage(Min)(+5V is 5, +/-5V is 10): 8; Vio (25C)(Max)(mV): 5; DatasheetVersion: SBOS093E; PackageVersion: 4202951/C, 09/2004; PackageReference: KVC11; PackageDescription: 11-Pin Plastic Flange Mount, Body 20.015 x 4.495 mm, Pitch 1.7 mm; Supplier 1: Digi-Key; Supplier Part Number 1: OPA549S-ND; Supplier 2: Newark; Supplier Part Number 2: 75C5065; Supplier 3: Mouser; Supplier Part Number 3: 595-OPA549S; Eco-Plan: Green (RoHS & no Sb/Br); Mounting Technology: Through Hole; Code_JEDEC: MO-48-AA; ComponentLink1Description: Manufacturer URL; ComponentLink1URL: http://www.ti.com/; ComponentLink2Description: Datasheet; ComponentLink2URL: http://www.ti.com/lit/ds/symlink/opa549.pdf; ComponentLink3Description: Package Specification; ComponentLink3URL: http://www.ti.com/litv/pdf/mpsf016b
footprint TI-KVC11 (FM, 11-Leads, Body 20.015x4.495mm, Pitch 1.7mm)
pins: 1 VO (out), 2 VO (out), 3 IN- (in), 4 IN+ (in), 5 V- (power), 6 REF (in), 7 V- (power), 8 ILIM (in), 9 E/S (io), 10 V+ (power), 11 V+ (power)

## OPA549SG3
designator U?
High-Voltage, High-Current Operational Amplifier, Excellent Output Swing, 8 to 60 V, -40 to 125 degC, 11-pin FM (KVC), Green (RoHS & no Sb/Br); Manufacturer: Texas Instruments; PartNumber: OPA549SG3; CMRR(Min)(dB): 80; GBW(Typ)(MHz): 0.9; IIB(Max)(pA): 500000; Iq per channel(Max)(mA): 35; Number of Channels: 1; Offset Drift(Typ)(uV/C): 20; Packing: TUBE; Rating: Military; Slew Rate(Typ)(V/us): 9; Sub Family: High Output Current Amplifier (>=50mA), High Supply Voltage Amplifier (>=30V), Precision Amplifier; Total Supply Voltage(Max)(+5V is 5, +/-5V is 10): 60; Total Supply Voltage(Min)(+5V is 5, +/-5V is 10): 8; Vio (25C)(Max)(mV): 5; DatasheetVersion: SBOS093E; PackageVersion: 4202951/C, 09/2004; PackageReference: KVC11; PackageDescription: 11-Pin Plastic Flange Mount, Body 20.015 x 4.495 mm, Pitch 1.7 mm; Supplier 1: Digi-Key; Supplier Part Number 1: OPA549SG3-ND; Supplier 2: Farnell; Supplier Part Number 2: 1207065; Supplier 3: Newark; Supplier Part Number 3: 97K6852; Supplier 4: Newark; Supplier Part Number 4: 28K3627; Supplier 5: Mouser; Supplier Part Number 5: 595-OPA549SG3; Eco-Plan: Green (RoHS & no Sb/Br); Mounting Technology: Through Hole; Code_JEDEC: MO-48-AA; ComponentLink1Description: Manufacturer URL; ComponentLink1URL: http://www.ti.com/; ComponentLink2Description: Datasheet; ComponentLink2URL: http://www.ti.com/lit/ds/symlink/opa549.pdf; ComponentLink3Description: Package Specification; ComponentLink3URL: http://www.ti.com/litv/pdf/mpsf016b
footprint TI-KVC11 (FM, 11-Leads, Body 20.015x4.495mm, Pitch 1.7mm)
pins: 1 VO (out), 2 VO (out), 3 IN- (in), 4 IN+ (in), 5 V- (power), 6 REF (in), 7 V- (power), 8 ILIM (in), 9 E/S (io), 10 V+ (power), 11 V+ (power)

## OPA549T
designator U?
High-Voltage, High-Current Operational Amplifier, Excellent Output Swing, 8 to 60 V, -40 to 125 degC, 11-pin FM (KV), Green (RoHS & no Sb/Br); Manufacturer: Texas Instruments; PartNumber: OPA549T; CMRR(Min)(dB): 80; GBW(Typ)(MHz): 0.9; IIB(Max)(pA): 500000; Iq per channel(Max)(mA): 35; Number of Channels: 1; Offset Drift(Typ)(uV/C): 20; Packing: TUBE; Rating: Military; Slew Rate(Typ)(V/us): 9; Sub Family: High Output Current Amplifier (>=50mA), High Supply Voltage Amplifier (>=30V), Precision Amplifier; Total Supply Voltage(Max)(+5V is 5, +/-5V is 10): 60; Total Supply Voltage(Min)(+5V is 5, +/-5V is 10): 8; Vio (25C)(Max)(mV): 5; DatasheetVersion: SBOS093E; PackageVersion: 4202503/C, 06/2009; PackageReference: KV11; PackageDescription: 11-Pin Plastic Flange Mount, Body 20.015 x 4.495 mm, Pitch 1.7 mm; Supplier 1: Digi-Key; Supplier Part Number 1: OPA549T-ND; Supplier 2: Farnell; Supplier Part Number 2: 1097484; Supplier 3: Newark; Supplier Part Number 3: 74K3913; Supplier 4: Mouser; Supplier Part Number 4: 595-OPA549T; Eco-Plan: Green (RoHS & no Sb/Br); Mounting Technology: Through Hole; Code_JEDEC: MO-48-AA; ComponentLink1Description: Manufacturer URL; ComponentLink1URL: http://www.ti.com/; ComponentLink2Description: Datasheet; ComponentLink2URL: http://www.ti.com/lit/ds/symlink/opa549.pdf; ComponentLink3Description: Package Specification; ComponentLink3URL: http://www.ti.com/litv/pdf/mpzf003b
footprint TI-KV11_V (FM, 11-Leads, Body 20.015x4.495mm, Pitch 1.7mm)
pins: 1 VO (out), 2 VO (out), 3 IN- (in), 4 IN+ (in), 5 V- (power), 6 REF (in), 7 V- (power), 8 ILIM (in), 9 E/S (io), 10 V+ (power), 11 V+ (power)

## OPA549TG3
designator U?
High-Voltage, High-Current Operational Amplifier, Excellent Output Swing, 8 to 60 V, -40 to 125 degC, 11-pin FM (KV), Green (RoHS & no Sb/Br); Manufacturer: Texas Instruments; PartNumber: OPA549TG3; CMRR(Min)(dB): 80; GBW(Typ)(MHz): 0.9; IIB(Max)(pA): 500000; Iq per channel(Max)(mA): 35; Number of Channels: 1; Offset Drift(Typ)(uV/C): 20; Packing: TUBE; Rating: Military; Slew Rate(Typ)(V/us): 9; Sub Family: High Output Current Amplifier (>=50mA), High Supply Voltage Amplifier (>=30V), Precision Amplifier; Total Supply Voltage(Max)(+5V is 5, +/-5V is 10): 60; Total Supply Voltage(Min)(+5V is 5, +/-5V is 10): 8; Vio (25C)(Max)(mV): 5; DatasheetVersion: SBOS093E; PackageVersion: 4202503/C, 06/2009; PackageReference: KV11; PackageDescription: 11-Pin Plastic Flange Mount, Body 20.015 x 4.495 mm, Pitch 1.7 mm; Supplier 1: Digi-Key; Supplier Part Number 1: 296-36134-5-ND; Supplier 2: Newark; Supplier Part Number 2: 28K3628; Supplier 3: Mouser; Supplier Part Number 3: 595-OPA549TG3; Eco-Plan: Green (RoHS & no Sb/Br); Mounting Technology: Through Hole; Code_JEDEC: MO-48-AA; ComponentLink1Description: Manufacturer URL; ComponentLink1URL: http://www.ti.com/; ComponentLink2Description: Datasheet; ComponentLink2URL: http://www.ti.com/lit/ds/symlink/opa549.pdf; ComponentLink3Description: Package Specification; ComponentLink3URL: http://www.ti.com/litv/pdf/mpzf003b
footprint TI-KV11_V (FM, 11-Leads, Body 20.015x4.495mm, Pitch 1.7mm)
pins: 1 VO (out), 2 VO (out), 3 IN- (in), 4 IN+ (in), 5 V- (power), 6 REF (in), 7 V- (power), 8 ILIM (in), 9 E/S (io), 10 V+ (power), 11 V+ (power)

## OPA551PA
designator U?
High-Voltage, High-Current Operational Amplifier, 8 to 60 V, -55 to 125 degC, 8-pin DIP (P8), Green (RoHS & no Sb/Br); Manufacturer: Texas Instruments; PartNumber: OPA551PA; CMRR(Min)(dB): 92; GBW(Typ)(MHz): 3; IIB(Max)(pA): 100; Iq per channel(Max)(mA): 8.5; Number of Channels: 1; Offset Drift(Typ)(uV/C): 7; Packing: TUBE; Rating: Catalog; Slew Rate(Typ)(V/us): 15; Sub Family: High Output Current Amplifier (>=50mA), High Supply Voltage Amplifier (>=30V), Precision Amplifier; Total Supply Voltage(Max)(+5V is 5, +/-5V is 10): 60; Total Supply Voltage(Min)(+5V is 5, +/-5V is 10): 8; DatasheetVersion: SBOS100A; PackageVersion: 4040082/E, 04/2010; PackageReference: P8; PackageDescription: 8-Pin Plastic In-Line, Body 9.59 x 6.35 mm, Pitch 2.54 mm; Supplier 1: Digi-Key; Supplier Part Number 1: OPA551PA-ND; Supplier 2: Farnell; Supplier Part Number 2: 4427191; Supplier 3: Newark; Supplier Part Number 3: 75C5068; Supplier 4: Mouser; Supplier Part Number 4: 595-OPA551PA; Eco-Plan: Green (RoHS & no Sb/Br); Vio (25C)(Max)(mV): 3; Mounting Technology: Through Hole; Code_JEDEC: MS-001; ComponentLink1Description: Manufacturer URL; ComponentLink1URL: http://www.ti.com/; ComponentLink2Description: Datasheet; ComponentLink2URL: http://www.ti.com/lit/ds/symlink/opa551.pdf; ComponentLink3Description: Package Specification; ComponentLink3URL: http://www.ti.com/litv/pdf/mpdi001b
footprint TI-P8 (DIP, 8-Leads, Body 9.59x6.35mm, Pitch 2.54mm)
pins: 1 NC, 2 IN- (in), 3 IN+ (in), 4 V- (power), 5 NC, 6 OUT (out), 7 V+ (power), 8 FLAG (out)

## OPA551PAG4
designator U?
High-Voltage, High-Current Operational Amplifier, 8 to 60 V, -55 to 125 degC, 8-pin DIP (P8), Green (RoHS & no Sb/Br); Manufacturer: Texas Instruments; PartNumber: OPA551PAG4; CMRR(Min)(dB): 92; GBW(Typ)(MHz): 3; IIB(Max)(pA): 100; Iq per channel(Max)(mA): 8.5; Number of Channels: 1; Offset Drift(Typ)(uV/C): 7; Packing: TUBE; Rating: Catalog; Slew Rate(Typ)(V/us): 15; Sub Family: High Output Current Amplifier (>=50mA), High Supply Voltage Amplifier (>=30V), Precision Amplifier; Total Supply Voltage(Max)(+5V is 5, +/-5V is 10): 60; Total Supply Voltage(Min)(+5V is 5, +/-5V is 10): 8; DatasheetVersion: SBOS100A; PackageVersion: 4040082/E, 04/2010; PackageReference: P8; PackageDescription: 8-Pin Plastic In-Line, Body 9.59 x 6.35 mm, Pitch 2.54 mm; Supplier 1: Digi-Key; Supplier Part Number 1: OPA551PAG4-ND; Supplier 2: Farnell; Supplier Part Number 2: 1178432; Supplier 3: Newark; Supplier Part Number 3: 06M6858; Supplier 4: Newark; Supplier Part Number 4: 80K2677; Supplier 5: Mouser; Supplier Part Number 5: 595-OPA551PAG4; Eco-Plan: Green (RoHS & no Sb/Br); Vio (25C)(Max)(mV): 3; Mounting Technology: Through Hole; Code_JEDEC: MS-001; ComponentLink1Description: Manufacturer URL; ComponentLink1URL: http://www.ti.com/; ComponentLink2Description: Datasheet; ComponentLink2URL: http://www.ti.com/lit/ds/symlink/opa551.pdf; ComponentLink3Description: Package Specification; ComponentLink3URL: http://www.ti.com/litv/pdf/mpdi001b
footprint TI-P8 (DIP, 8-Leads, Body 9.59x6.35mm, Pitch 2.54mm)
pins: 1 NC, 2 IN- (in), 3 IN+ (in), 4 V- (power), 5 NC, 6 OUT (out), 7 V+ (power), 8 FLAG (out)

## OPA551UA
designator U?
High-Voltage, High-Current Operational Amplifier, 8 to 60 V, -55 to 125 degC, 8-pin SOIC (D8), Green (RoHS & no Sb/Br); Manufacturer: Texas Instruments; PartNumber: OPA551UA; CMRR(Min)(dB): 92; GBW(Typ)(MHz): 3; IIB(Max)(pA): 100; Iq per channel(Max)(mA): 8.5; Number of Channels: 1; Offset Drift(Typ)(uV/C): 7; Packing: TUBE; Rating: Catalog; Slew Rate(Typ)(V/us): 15; Sub Family: High Output Current Amplifier (>=50mA), High Supply Voltage Amplifier (>=30V), Precision Amplifier; Total Supply Voltage(Max)(+5V is 5, +/-5V is 10): 60; Total Supply Voltage(Min)(+5V is 5, +/-5V is 10): 8; DatasheetVersion: SBOS100A; PackageVersion: 4040047-3/M, 06/2011; PackageReference: D8; PackageDescription: 8-Pin Plastic Small Outline, Body 4.9 x 3.9 mm, Pitch 1.27 mm; Supplier 1: Digi-Key; Supplier Part Number 1: OPA551UA-ND; Supplier 2: Farnell; Supplier Part Number 2: 1097509; Supplier 3: Newark; Supplier Part Number 3: 16M2463; Supplier 4: Mouser; Supplier Part Number 4: 595-OPA551UA; Eco-Plan: Green (RoHS & no Sb/Br); Vio (25C)(Max)(mV): 3; Mounting Technology: Surface Mount; Code_JEDEC: MS-012; ComponentLink1Description: Manufacturer URL; ComponentLink1URL: http://www.ti.com/; ComponentLink2Description: Datasheet; ComponentLink2URL: http://www.ti.com/lit/ds/symlink/opa551.pdf; ComponentLink3Description: Package Specification; ComponentLink3URL: http://www.ti.com/litv/pdf/msoi002j
footprint TI-D8_N (SOIC, 8-Leads, Body 4.9x3.9mm, Pitch 1.27mm, IPC Medium Density)
footprint TI-D8_L (SOIC, 8-Leads, Body 4.9x3.9mm, Pitch 1.27mm, IPC High Density)
footprint TI-D8_M (SOIC, 8-Leads, Body 4.9x3.9mm, Pitch 1.27mm, IPC Low Density)
pins: 1 V- (power), 2 IN- (in), 3 IN+ (in), 4 V- (power), 5 V- (power), 6 OUT (out), 7 V+ (power), 8 FLAG (out)
text: 1, 4, 5

## OPA551UA/2K5
designator U?
High-Voltage, High-Current Operational Amplifier, 8 to 60 V, -55 to 125 degC, 8-pin SOIC (D8), Green (RoHS & no Sb/Br); Manufacturer: Texas Instruments; PartNumber: OPA551UA/2K5; CMRR(Min)(dB): 92; GBW(Typ)(MHz): 3; IIB(Max)(pA): 100; Iq per channel(Max)(mA): 8.5; Number of Channels: 1; Offset Drift(Typ)(uV/C): 7; Packing: LARGE T&R; Rating: Catalog; Slew Rate(Typ)(V/us): 15; Sub Family: High Output Current Amplifier (>=50mA), High Supply Voltage Amplifier (>=30V), Precision Amplifier; Total Supply Voltage(Max)(+5V is 5, +/-5V is 10): 60; Total Supply Voltage(Min)(+5V is 5, +/-5V is 10): 8; DatasheetVersion: SBOS100A; PackageVersion: 4040047-3/M, 06/2011; PackageReference: D8; PackageDescription: 8-Pin Plastic Small Outline, Body 4.9 x 3.9 mm, Pitch 1.27 mm; Supplier 1: Digi-Key; Supplier Part Number 1: OPA551UA/2K5-ND; Supplier 2: Newark; Supplier Part Number 2: 73C3423; Supplier 3: Mouser; Supplier Part Number 3: 595-OPA551UA/2K5; Eco-Plan: Green (RoHS & no Sb/Br); Vio (25C)(Max)(mV): 3; Mounting Technology: Surface Mount; Code_JEDEC: MS-012; ComponentLink1Description: Manufacturer URL; ComponentLink1URL: http://www.ti.com/; ComponentLink2Description: Datasheet; ComponentLink2URL: http://www.ti.com/lit/ds/symlink/opa551.pdf; ComponentLink3Description: Package Specification; ComponentLink3URL: http://www.ti.com/litv/pdf/msoi002j
footprint TI-D8_N (SOIC, 8-Leads, Body 4.9x3.9mm, Pitch 1.27mm, IPC Medium Density)
footprint TI-D8_L (SOIC, 8-Leads, Body 4.9x3.9mm, Pitch 1.27mm, IPC High Density)
footprint TI-D8_M (SOIC, 8-Leads, Body 4.9x3.9mm, Pitch 1.27mm, IPC Low Density)
pins: 1 V- (power), 2 IN- (in), 3 IN+ (in), 4 V- (power), 5 V- (power), 6 OUT (out), 7 V+ (power), 8 FLAG (out)
text: 1, 4, 5

## OPA551UA/2K5E4
designator U?
High-Voltage, High-Current Operational Amplifier, 8 to 60 V, -55 to 125 degC, 8-pin SOIC (D8), Green (RoHS & no Sb/Br); Manufacturer: Texas Instruments; PartNumber: OPA551UA/2K5E4; CMRR(Min)(dB): 92; GBW(Typ)(MHz): 3; IIB(Max)(pA): 100; Iq per channel(Max)(mA): 8.5; Number of Channels: 1; Offset Drift(Typ)(uV/C): 7; Packing: LARGE T&R; Rating: Catalog; Slew Rate(Typ)(V/us): 15; Sub Family: High Output Current Amplifier (>=50mA), High Supply Voltage Amplifier (>=30V), Precision Amplifier; Total Supply Voltage(Max)(+5V is 5, +/-5V is 10): 60; Total Supply Voltage(Min)(+5V is 5, +/-5V is 10): 8; DatasheetVersion: SBOS100A; PackageVersion: 4040047-3/M, 06/2011; PackageReference: D8; PackageDescription: 8-Pin Plastic Small Outline, Body 4.9 x 3.9 mm, Pitch 1.27 mm; Supplier 1: Digi-Key; Supplier Part Number 1: OPA551UA/2K5E4-ND; Supplier 2: Newark; Supplier Part Number 2: 84K3452; Supplier 3: Mouser; Supplier Part Number 3: 595-OPA551UA/2K5E4; Eco-Plan: Green (RoHS & no Sb/Br); Vio (25C)(Max)(mV): 3; Mounting Technology: Surface Mount; Code_JEDEC: MS-012; ComponentLink1Description: Manufacturer URL; ComponentLink1URL: http://www.ti.com/; ComponentLink2Description: Datasheet; ComponentLink2URL: http://www.ti.com/lit/ds/symlink/opa551.pdf; ComponentLink3Description: Package Specification; ComponentLink3URL: http://www.ti.com/litv/pdf/msoi002j
footprint TI-D8_N (SOIC, 8-Leads, Body 4.9x3.9mm, Pitch 1.27mm, IPC Medium Density)
footprint TI-D8_L (SOIC, 8-Leads, Body 4.9x3.9mm, Pitch 1.27mm, IPC High Density)
footprint TI-D8_M (SOIC, 8-Leads, Body 4.9x3.9mm, Pitch 1.27mm, IPC Low Density)
pins: 1 V- (power), 2 IN- (in), 3 IN+ (in), 4 V- (power), 5 V- (power), 6 OUT (out), 7 V+ (power), 8 FLAG (out)
text: 1, 4, 5

## OPA551UA/2K5G4
designator U?
High-Voltage, High-Current Operational Amplifier, 8 to 60 V, -55 to 125 degC, 8-pin SOIC (D8); Manufacturer: Texas Instruments; PartNumber: OPA551UA/2K5G4; CMRR(Min)(dB): 92; GBW(Typ)(MHz): 3; IIB(Max)(pA): 100; Iq per channel(Max)(mA): 8.5; Number of Channels: 1; Offset Drift(Typ)(uV/C): 7; Rating: Catalog; Slew Rate(Typ)(V/us): 15; Sub Family: High Output Current Amplifier (>=50mA), High Supply Voltage Amplifier (>=30V), Precision Amplifier; Total Supply Voltage(Max)(+5V is 5, +/-5V is 10): 60; Total Supply Voltage(Min)(+5V is 5, +/-5V is 10): 8; DatasheetVersion: SBOS100A; PackageVersion: 4040047-3/M, 06/2011; PackageReference: D8; PackageDescription: 8-Pin Plastic Small Outline, Body 4.9 x 3.9 mm, Pitch 1.27 mm; Supplier 1: Mouser; Supplier Part Number 1: 595-OPA551UA/2K5G4; Vio (25C)(Max)(mV): 3; Mounting Technology: Surface Mount; Code_JEDEC: MS-012; ComponentLink1Description: Manufacturer URL; ComponentLink1URL: http://www.ti.com/; ComponentLink2Description: Datasheet; ComponentLink2URL: http://www.ti.com/lit/ds/symlink/opa551.pdf; ComponentLink3Description: Package Specification; ComponentLink3URL: http://www.ti.com/litv/pdf/msoi002j
footprint TI-D8_N (SOIC, 8-Leads, Body 4.9x3.9mm, Pitch 1.27mm, IPC Medium Density)
footprint TI-D8_L (SOIC, 8-Leads, Body 4.9x3.9mm, Pitch 1.27mm, IPC High Density)
footprint TI-D8_M (SOIC, 8-Leads, Body 4.9x3.9mm, Pitch 1.27mm, IPC Low Density)
pins: 1 V- (power), 2 IN- (in), 3 IN+ (in), 4 V- (power), 5 V- (power), 6 OUT (out), 7 V+ (power), 8 FLAG (out)
text: 1, 4, 5

## OPA551UAE4
designator U?
High-Voltage, High-Current Operational Amplifier, 8 to 60 V, -55 to 125 degC, 8-pin SOIC (D8), Green (RoHS & no Sb/Br); Manufacturer: Texas Instruments; PartNumber: OPA551UAE4; CMRR(Min)(dB): 92; GBW(Typ)(MHz): 3; IIB(Max)(pA): 100; Iq per channel(Max)(mA): 8.5; Number of Channels: 1; Offset Drift(Typ)(uV/C): 7; Packing: TUBE; Rating: Catalog; Slew Rate(Typ)(V/us): 15; Sub Family: High Output Current Amplifier (>=50mA), High Supply Voltage Amplifier (>=30V), Precision Amplifier; Total Supply Voltage(Max)(+5V is 5, +/-5V is 10): 60; Total Supply Voltage(Min)(+5V is 5, +/-5V is 10): 8; DatasheetVersion: SBOS100A; PackageVersion: 4040047-3/M, 06/2011; PackageReference: D8; PackageDescription: 8-Pin Plastic Small Outline, Body 4.9 x 3.9 mm, Pitch 1.27 mm; Supplier 1: Digi-Key; Supplier Part Number 1: OPA551UAE4-ND; Supplier 2: Newark; Supplier Part Number 2: 28M6695; Supplier 3: Mouser; Supplier Part Number 3: 595-OPA551UAE4; Eco-Plan: Green (RoHS & no Sb/Br); Vio (25C)(Max)(mV): 3; Mounting Technology: Surface Mount; Code_JEDEC: MS-012; ComponentLink1Description: Manufacturer URL; ComponentLink1URL: http://www.ti.com/; ComponentLink2Description: Datasheet; ComponentLink2URL: http://www.ti.com/lit/ds/symlink/opa551.pdf; ComponentLink3Description: Package Specification; ComponentLink3URL: http://www.ti.com/litv/pdf/msoi002j
footprint TI-D8_N (SOIC, 8-Leads, Body 4.9x3.9mm, Pitch 1.27mm, IPC Medium Density)
footprint TI-D8_L (SOIC, 8-Leads, Body 4.9x3.9mm, Pitch 1.27mm, IPC High Density)
footprint TI-D8_M (SOIC, 8-Leads, Body 4.9x3.9mm, Pitch 1.27mm, IPC Low Density)
pins: 1 V- (power), 2 IN- (in), 3 IN+ (in), 4 V- (power), 5 V- (power), 6 OUT (out), 7 V+ (power), 8 FLAG (out)
text: 1, 4, 5

## OPA552PA
designator U?
High-Voltage, High-Current Operational Amplifier, 8 to 60 V, -55 to 125 degC, 8-pin DIP (P8), Green (RoHS & no Sb/Br); Manufacturer: Texas Instruments; PartNumber: OPA552PA; CMRR(Min)(dB): 92; GBW(Typ)(MHz): 12; IIB(Max)(pA): 100; Iq per channel(Max)(mA): 8.5; Number of Channels: 1; Offset Drift(Typ)(uV/C): 7; Packing: TUBE; Rating: Catalog; Slew Rate(Typ)(V/us): 24; Sub Family: High Output Current Amplifier (>=50mA), High Supply Voltage Amplifier (>=30V), Precision Amplifier; Total Supply Voltage(Max)(+5V is 5, +/-5V is 10): 60; Total Supply Voltage(Min)(+5V is 5, +/-5V is 10): 8; Vio (25C)(Max)(mV): 3; DatasheetVersion: SBOS100A; PackageVersion: 4040082/E, 04/2010; PackageReference: P8; PackageDescription: 8-Pin Plastic In-Line, Body 9.59 x 6.35 mm, Pitch 2.54 mm; Supplier 1: Digi-Key; Supplier Part Number 1: OPA552PA-ND; Supplier 2: Farnell; Supplier Part Number 2: 1215361; Supplier 3: Newark; Supplier Part Number 3: 28M9262; Supplier 4: Mouser; Supplier Part Number 4: 595-OPA552PA; Eco-Plan: Green (RoHS & no Sb/Br); Mounting Technology: Through Hole; Code_JEDEC: MS-001; ComponentLink1Description: Manufacturer URL; ComponentLink1URL: http://www.ti.com/; ComponentLink2Description: Datasheet; ComponentLink2URL: http://www.ti.com/lit/ds/symlink/opa552.pdf; ComponentLink3Description: Package Specification; ComponentLink3URL: http://www.ti.com/litv/pdf/mpdi001b
footprint TI-P8 (DIP, 8-Leads, Body 9.59x6.35mm, Pitch 2.54mm)
pins: 1 NC, 2 IN- (in), 3 IN+ (in), 4 V- (power), 5 NC, 6 OUT (out), 7 V+ (power), 8 FLAG (out)

## OPA552PAG4
designator U?
High-Voltage, High-Current Operational Amplifier, 8 to 60 V, -55 to 125 degC, 8-pin DIP (P8), Green (RoHS & no Sb/Br); Manufacturer: Texas Instruments; PartNumber: OPA552PAG4; CMRR(Min)(dB): 92; GBW(Typ)(MHz): 12; IIB(Max)(pA): 100; Iq per channel(Max)(mA): 8.5; Number of Channels: 1; Offset Drift(Typ)(uV/C): 7; Packing: TUBE; Rating: Catalog; Slew Rate(Typ)(V/us): 24; Sub Family: High Output Current Amplifier (>=50mA), High Supply Voltage Amplifier (>=30V), Precision Amplifier; Total Supply Voltage(Max)(+5V is 5, +/-5V is 10): 60; Total Supply Voltage(Min)(+5V is 5, +/-5V is 10): 8; Vio (25C)(Max)(mV): 3; DatasheetVersion: SBOS100A; PackageVersion: 4040082/E, 04/2010; PackageReference: P8; PackageDescription: 8-Pin Plastic In-Line, Body 9.59 x 6.35 mm, Pitch 2.54 mm; Supplier 1: Digi-Key; Supplier Part Number 1: OPA552PAG4-ND; Supplier 2: Newark; Supplier Part Number 2: 20M5659; Supplier 3: Mouser; Supplier Part Number 3: 595-OPA552PAG4; Eco-Plan: Green (RoHS & no Sb/Br); Mounting Technology: Through Hole; Code_JEDEC: MS-001; ComponentLink1Description: Manufacturer URL; ComponentLink1URL: http://www.ti.com/; ComponentLink2Description: Datasheet; ComponentLink2URL: http://www.ti.com/lit/ds/symlink/opa552.pdf; ComponentLink3Description: Package Specification; ComponentLink3URL: http://www.ti.com/litv/pdf/mpdi001b
footprint TI-P8 (DIP, 8-Leads, Body 9.59x6.35mm, Pitch 2.54mm)
pins: 1 NC, 2 IN- (in), 3 IN+ (in), 4 V- (power), 5 NC, 6 OUT (out), 7 V+ (power), 8 FLAG (out)